# EAGLE library part MAGJACK2 (library Jim)
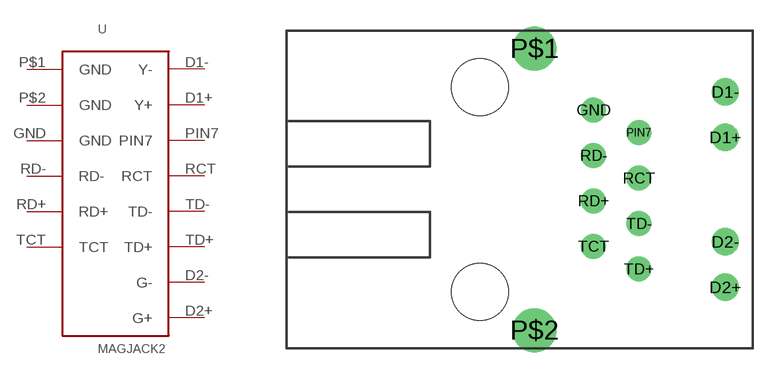
[diagram p20: symbol with the pads of MAGJACK2; footprint MAGJACK2]

Designator prefix -

## MAGJACK2  [MAGJACK2]
D1+  Y+
D1-  Y-
D2+  G+
D2-  G-
GND  GND  pwr
P$1  GND  pwr
P$2  GND  pwr
PIN7  PIN7  pwr
RCT  RCT
RD+  RD+  out
RD-  RD-  out
TCT  TCT
TD+  TD+  in
TD-  TD-  in

## Footprint MAGJACK2 (pad centres in mm)
drill 1.016 round: D1+ 13.716,2.921; D1- 13.716,5.461; D2+ 13.716,-5.461; D2- 13.716,-2.921
drill 0.889 round: GND 6.35,4.445; PIN7 8.89,3.175; RCT 8.89,0.635; RD+ 6.35,-0.635; RD- 6.35,1.905; TCT 6.35,-3.175; TD+ 8.89,-4.445; TD- 8.89,-1.905
drill 1.626 round: P$1 3.048,7.874; P$2 3.048,-7.874
hole 3.175 at 0,5.715
hole 3.175 at 0,-5.715